# Altium footprint library 28377一体板.PcbLib: 62 footprints (part 1 of 4)
Each footprint in its own frame and in the unit in brackets; x right, y up, seen from the top. Pads: shape width x height; smd on the part's side, far side on the other; paste and mask are expansions set on the pad; w line width, h text height; cw(c..) or ccw(c..) is an arc to the next point about the centre after c.
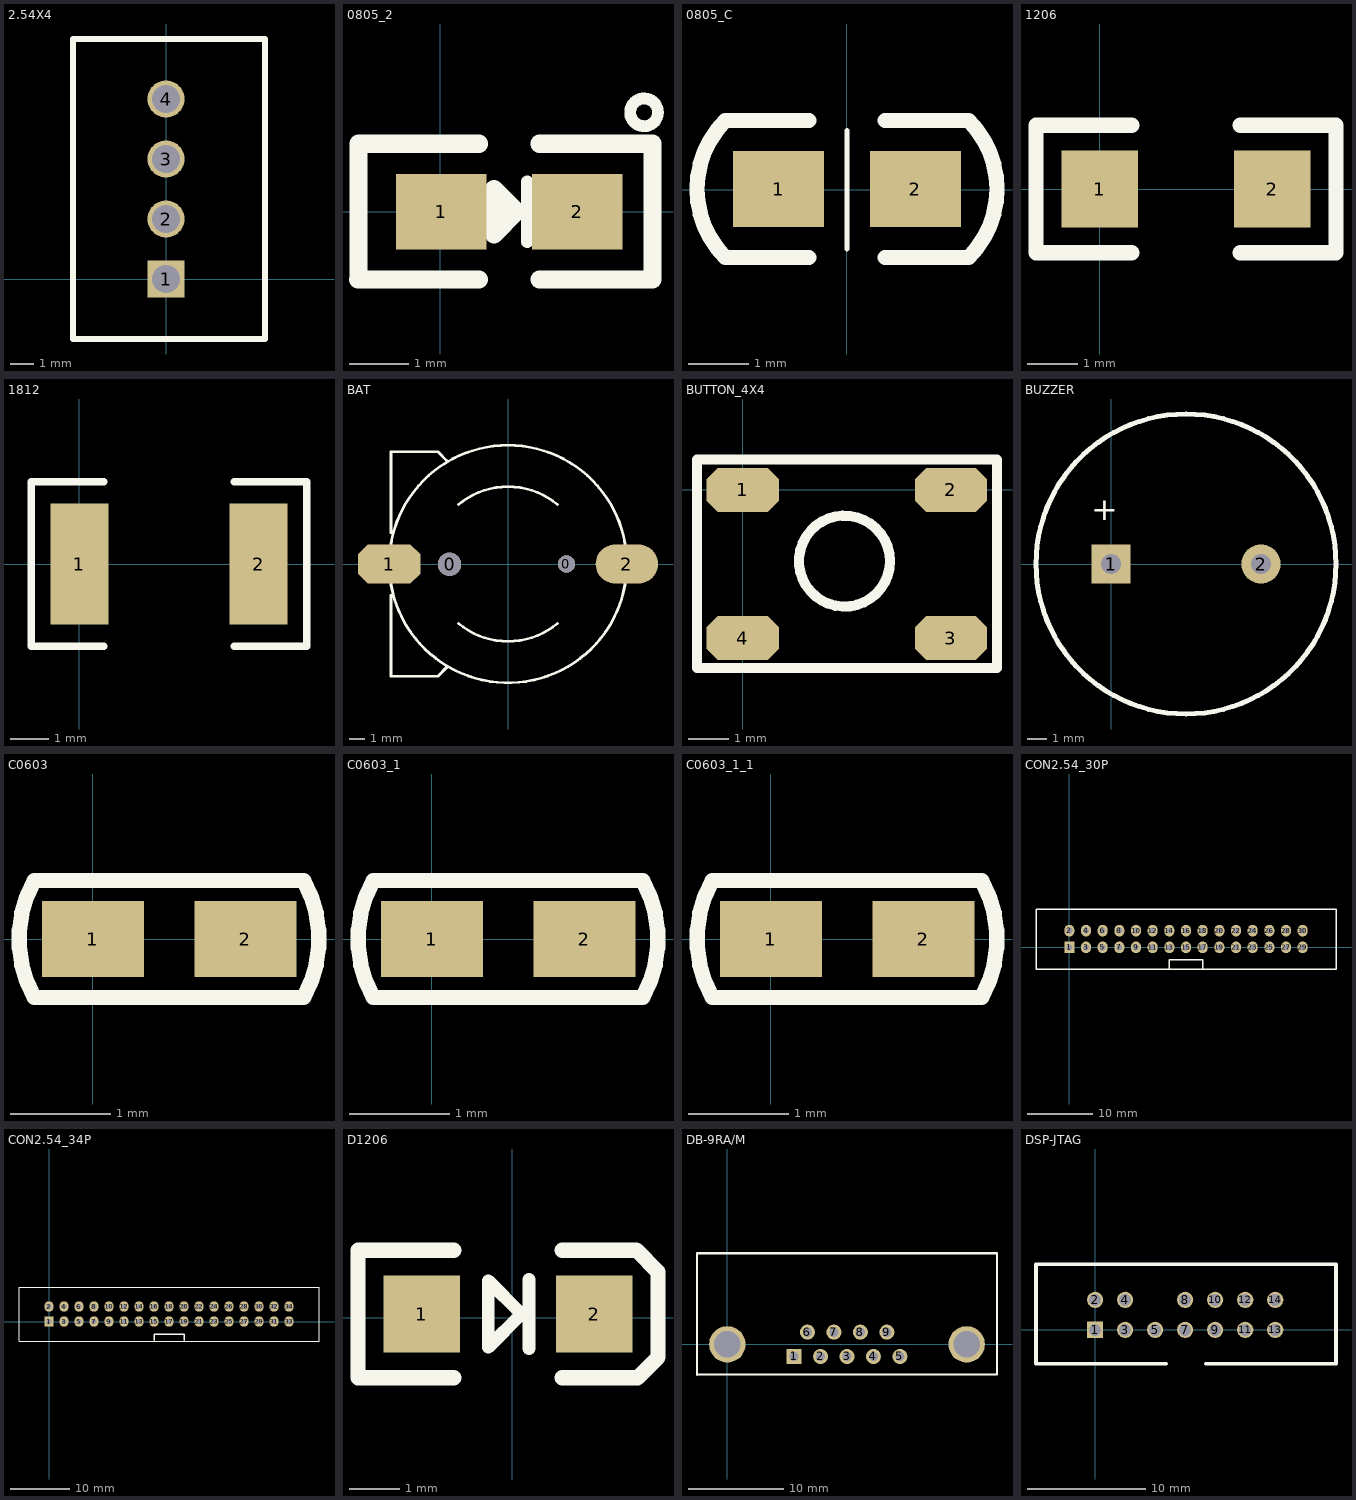
[diagram p0: the footprints below, top view; thin cyan lines are the x and y axes]

## 2.54X4 [mil]
pads (4):
  rect 62x62 hole 47.24: 1(0,0)
  round 62 hole 47.24: 2(0,100) 3(0,200) 4(0,300)
Top Overlay:
  lines w10: -155,-100 -155,400 165,400 165,-100 50,-100 -155,-100

## 0805_2 [mil]
pads (2):
  rect 60x50 smd: 1(0.59,0.22) 2(90.59,0.22)
Top Overlay:
  circle w7.87: c135,66 r9.22
  lines w8: 57.59,-19.78 57.59,20.22
  lines w10: -24.41,-44.78 -19.41,-44.78
  lines w12: -54.57,-44.78 -34.41,-44.78 -24.41,-44.78 25.59,-44.78 ; -54.25,-44.46 -54.25,45.22 -34.41,45.22 -19.41,45.22 25.59,45.22 ; 35.59,0.22 50.59,0.22 ; 65.59,-44.78 140.59,-44.78 140.59,45.22 65.59,45.22 ; 50.59,0.22 35.59,-14.78 35.59,15.22 50.59,0.22

## 0805_C [mil]
pads (2):
  rect 60x50 smd: 1(-44.98,0.48) 2(45.02,0.48)
Top Overlay:
  lines w3: 0,-39 0,39
  lines w10: -24.98,-44.52 -79.98,-44.52 cw(c-34.98,0.48) -79.98,45.48 -24.98,45.48 ; 25.02,-44.52 80.02,-44.52 ccw(c35.02,0.48) 80.02,45.48 25.02,45.48

## 1206 [mil]
pads (2):
  rect 60x60 smd: 1(0,0) 2(135,0)
Top Overlay:
  lines w12: 25,-50 -50,-50 -50,50 25,50 ; 110,-50 185,-50 185,50 110,50

## 1812 [mil]
pads (2):
  rect 60x125 smd: 1(0,0) 2(185,0)
Top Overlay:
  lines w7.87: 25,-85 -50,-85 -50,85 25,85 ; 160,-85 235,-85 235,85 160,85

## BAT [mm]
pads (4):
  round 1.5 hole 1.5: 0(-3.75,-0.025)
  round 1.1 hole 1.1: 0(3.75,0)
  oct 4x2.5 smd: 1(-7.62,0)
  oval 4x2.5 smd: 2(7.62,0)
Top Overlay:
  lines w0.178: -7.574,-0.833 ccw(c0,0) 7.574,-0.833 ; -7.574,0.833 cw(c0,0) 0,7.62 cw(c0,0) 7.574,0.833 ; -7.5,-2 -7.5,-7.2 -4.5,-7.2 -3.925,-6.625 ; -7.5,2 -7.5,7.2 -4.5,7.2 -3.9,6.6 ; -3.175,-3.81 ccw(c0,0) 3.172,-3.812 ; -3.169,3.815 cw(c0,0) 3.172,3.812

## BUTTON_4X4 [mm]
pads (4):
  oct 1.8x1.1 smd: 1(0,0) 2(5.2,0) 3(5.2,-3.7) 4(0,-3.7)
Top Overlay:
  circle w0.254: c2.54,-1.778 r1.136
  lines w0.254: -1.143,-4.445 -1.143,0.762 6.35,0.762 6.35,-4.445 -1.143,-4.445

## BUZZER [mm]
pads (2):
  rect 2x2 hole 1: 1(0,0)
  round 2 hole 1: 2(7.62,0)
Top Overlay:
  circle w0.254: c3.81,0 r7.62
  text "+" at -0.992,1.824 h2.03

## C0603 [mil]
pads (2):
  rect 40.2x29.9 smd: 1(0,0) 2(60,0)
Top Overlay:
  lines w6: -23.07,-23.04 cw(c17.9,0) -23.07,23.04 ; -23,-23 83,-23 ; -23,23 83,23 ; 82.97,-22.98 ccw(c42.2,0) 82.97,22.98

## C0603_1 [mil]
pads (2):
  rect 40.2x29.9 smd: 1(0,0) 2(60,0)
Top Overlay:
  lines w6: -23.07,-23.04 cw(c17.9,0) -23.07,23.04 ; -23,-23 83,-23 ; -23,23 83,23 ; 82.97,-22.98 ccw(c42.2,0) 82.97,22.98

## C0603_1_1 [mil]
pads (2):
  rect 40.2x29.9 smd: 1(0,0) 2(60,0)
Top Overlay:
  lines w6: -23.07,-23.04 cw(c17.9,0) -23.07,23.04 ; -23,-23 83,-23 ; -23,23 83,23 ; 82.97,-22.98 ccw(c42.2,0) 82.97,22.98

## CON2.54_30P [mil]
pads (30):
  rect 60x70 hole 35.43: 1(0,0)
  oval 60x70 hole 35.43: 2(0,100) 3(100,0) 4(100,100) 5(200,0) 6(200,100) 7(300,0) 8(300,100) 9(400,0) 10(400,100) 11(500,0) 12(500,100) 13(600,0) 14(600,100) 15(700,0) 16(700,100) 17(800,0) 18(800,100) 19(900,0) 20(900,100) 21(1000,0) 22(1000,100) 23(1100,0) 24(1100,100) 25(1200,0) 26(1200,100) 27(1300,0) 28(1300,100) 29(1400,0) 30(1400,100)
Top Overlay:
  lines w7.87: 600,-130 600,-75 800,-75 800,-130 ; -200,-130 -200,230 1600,230 1600,-130 -200,-130

## CON2.54_34P [mil]
pads (34):
  rect 60x70 hole 35.43: 1(0,0)
  oval 60x70 hole 35.43: 2(0,100) 3(100,0) 4(100,100) 5(200,0) 6(200,100) 7(300,0) 8(300,100) 9(400,0) 10(400,100) 11(500,0) 12(500,100) 13(600,0) 14(600,100) 15(700,0) 16(700,100) 17(800,0) 18(800,100) 19(900,0) 20(900,100) 21(1000,0) 22(1000,100) 23(1100,0) 24(1100,100) 25(1200,0) 26(1200,100) 27(1300,0) 28(1300,100) 29(1400,0) 30(1400,100) 31(1500,0) 32(1500,100) 33(1600,0) 34(1600,100)
Top Overlay:
  lines w7.87: -200,-130 -200,230 1800,230 1800,-130 -200,-130
  lines w10: 700,-125 700,-85 900,-85 900,-125

## D1206 [mil]
pads (2):
  rect 60x60 smd: 1(-71,3) 2(64,3)
Top Overlay:
  lines w10: 13,-24 13,30 ; -19,-23 -19,-12 -19,29 7,3 -19,-23
  lines w12: -46,-47 -121,-47 -121,53 -46,53 ; 39,-47 98,-47 114,-31 114,36 97,53 39,53

## DB-9RA/M [mil]
pads (11):
  rect 62x62 hole 38: 1(275,-50)
  round 62 hole 38: 2(384,-50) 3(493,-50) 4(602,-50) 5(711,-50) 6(330,50) 7(439,50) 8(548,50) 9(657,50)
  round 150 hole 110: ""(0,0) ""(986,0)
Top Overlay:
  lines w8: -125,-125 1111,-125 1111,375
  lines w10: -125,-125 -125,375 1111,375

## DSP-JTAG [mil]
pads (13):
  rect 54x54 hole 40: 1(0,0)
  round 54 hole 40: 2(0,100) 3(100,0) 4(100,100) 5(200,0) 7(300,0) 8(300,100) 9(400,0) 10(400,100) 11(500,0) 12(500,100) 13(600,0) 14(600,100)
Top Overlay:
  lines w11.8: 236.2,-112.6 -196.9,-112.6 -196.9,218.1 802.4,218.1 802.4,-112.6 369.3,-112.6